# Altium integrated library 1M Res R 24.IntLib: 1 symbol
Pins are listed as number, name and electrical type; pins without a type are passive.

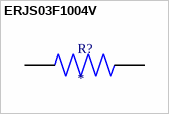
[diagram p0: symbol ERJS03F1004V]

## ERJS03F1004V
designator R?
Res Thick Film 0603 1M Ohm 1% 0.1W(1/10W) Â±100ppm/Â°C Sulfur Resistant Pad SMD Automotive T/R; MP: ERJ-S03F1004V; MF: Panasonic; Availability: Not in stock; Value: *; Price: None; SnapEDA_Link: https://www.snapeda.com/parts/ERJ-S03F1004V/Panasonic/view-part/3733497/?ref=snap; Check_prices: https://www.snapeda.com/parts/ERJ-S03F1004V/Panasonic/view-part/3733497/?ref=eda; Package: 1608-2 Panasonic
footprint RES_ERJS03F1004V
pins: 1, 2